# Altium footprint library 2015-10-09_12-53-28.PcbLib: 6 footprints
Each footprint in its own frame and in the unit in brackets; x right, y up, seen from the top. Pads: shape width x height; smd on the part's side, far side on the other; paste and mask are expansions set on the pad; w line width, h text height; cw(c..) or ccw(c..) is an arc to the next point about the centre after c.
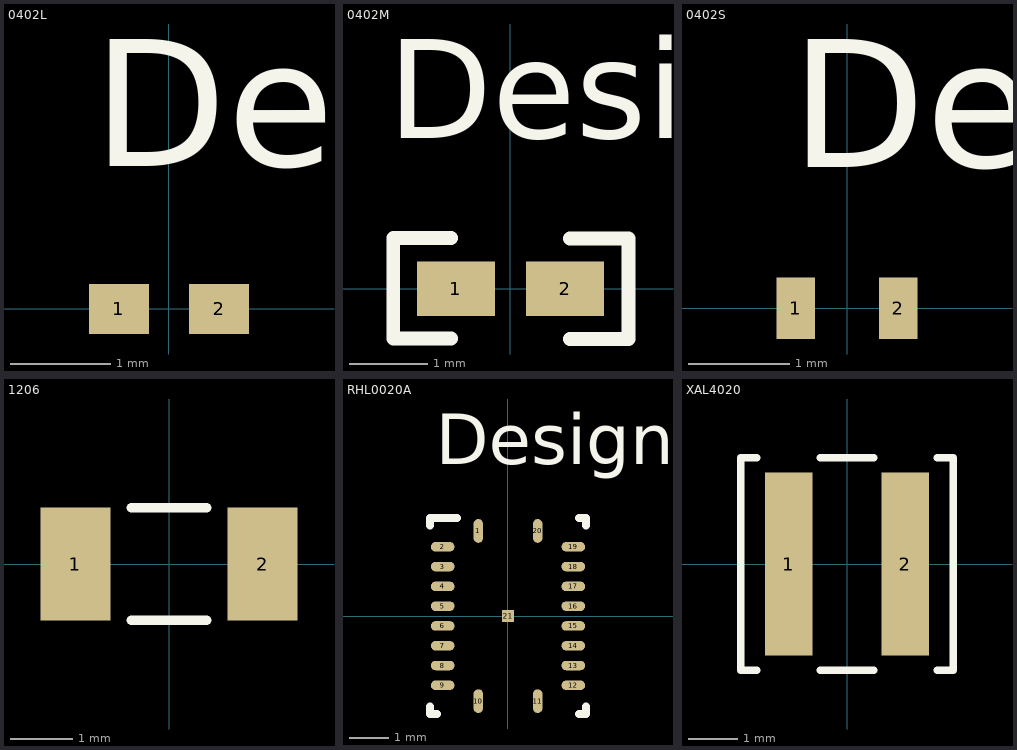
[diagram p0: the footprints below, top view; thin cyan lines are the x and y axes]

## 0402L [mm]
pads (2):
  rect 0.6x0.5 smd paste+0 mask+0.051: 1(-0.5,0) 2(0.5,0)
Top Overlay:
  text "Designator9" at -0.762,1.422 h1.27

## 0402M [mm]
pads (2):
  rect 1x0.7 smd paste+0 mask+0.051: 1(-0.7,0) 2(0.7,0)
Top Overlay:
  lines w0.178: -1.501,-0.635 -0.762,-0.635 ; -1.501,-0.627 -1.501,0.63 ; -1.501,0.65 -0.762,0.65 ; 0.762,-0.643 1.511,-0.643 ; 0.762,0.643 1.511,0.643 ; 1.511,-0.622 1.511,0.635
  text "Designator9" at -1.575,1.93 h1.27

## 0402S [mil]
pads (2):
  rect 15x24 smd paste+0 mask+2: 1(-20,0) 2(20,0)
Top Overlay:
  text "Designator9" at -22,55 h50

## 1206 [mil]
pads (2):
  rect 44x71 smd: 1(-59,0) 2(59,0)
Top Overlay:
  lines w6: -23.9,-35.5 23.9,-35.5 ; -23.9,35.5 23.9,35.5

## RHL0020A [mm]
pads (21):
  oval 0.24x0.6 smd paste-0.102 mask+0.051: 1(-0.75,2.15) 10(-0.75,-2.15) 11(0.75,-2.15) 20(0.75,2.15)
  oval 0.6x0.24 smd paste-0.102 mask+0.051: 2(-1.65,1.75) 3(-1.65,1.25) 4(-1.65,0.75) 5(-1.65,0.25) 6(-1.65,-0.25) 7(-1.65,-0.75) 8(-1.65,-1.25) 9(-1.65,-1.75) 12(1.65,-1.75) 13(1.65,-1.25) 14(1.65,-0.75) 15(1.65,-0.25) 16(1.65,0.25) 17(1.65,0.75) 18(1.65,1.25) 19(1.65,1.75)
  rect 0.3x0.3 smd paste-0.137 mask+0: 21(0,0)
Top Overlay:
  lines w0.2: -1.975,-2.29 -1.975,-2.475 -1.79,-2.475 ; -1.975,2.29 -1.975,2.475 -1.29,2.475 ; 1.79,-2.475 1.975,-2.475 1.975,-2.29 ; 1.79,2.475 1.975,2.475 1.975,2.29
  text "Designator97" at -1.829,3.835 h1.27
Top Paste:
  region: 0.1,-0.1 0.1,-1.428 1.017,-1.428 1.017,-0.1
  region: -0.1,-1.428 -0.1,-0.1 -1.017,-0.1 -1.017,-1.428
  region: -0.1,0.1 -0.1,1.428 -1.017,1.428 -1.017,0.1
  region: 0.1,1.428 0.1,0.1 1.017,0.1 1.017,1.428
  region: -0.39,1.925 -0.39,1.628 0.39,1.628 0.39,1.925
  region: -0.39,-1.628 -0.39,-1.925 0.39,-1.925 0.39,-1.628

## XAL4020 [mil]
pads (2):
  rect 38x146 smd: 1(-46.5,0) 2(46.5,0)
Top Overlay:
  lines w6: -71.77,-84.5 -84.5,-84.5 -84.5,84.5 -71.77,84.5 ; -21.23,-84.5 21.23,-84.5 ; -21.23,84.5 21.23,84.5 ; 71.77,-84.5 84.5,-84.5 84.5,84.5 71.77,84.5